# EAGLE library part GAMEBOY_ROTARY_POT_ (library Potentiometers - Thumbwheel)
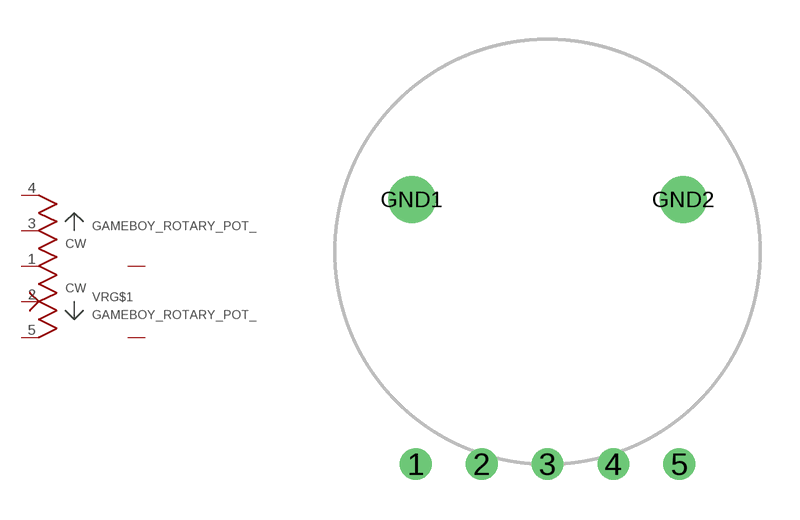
[diagram p0: symbol with the pads of GAMEBOY_POT_ROTARY_; footprint GAMEBOY_POT_ROTARY_]

Designator prefix VR; gates G$1=3LEG_POT G$2=GND G$3=GND G$4=2LEG_EXTRA

## GAMEBOY_ROTARY_POT_5LEG  [GAMEBOY_POT_ROTARY_]
1  G$1:1-CCW
2  G$1:2-WIPER
3  G$4:3-WIPER
4  G$4:4-CW
5  G$1:5-CW
GND1  G$2:P$1
GND2  G$3:P$1

## Footprint GAMEBOY_POT_ROTARY_ (pad centres in mm)
drill 0.7: 1 -5,-8.065; 2 -2.5,-8.065; 3 0,-8.065; 4 2.5,-8.065; 5 5,-8.065
drill 1.2: GND1 -5.15,1.985; GND2 5.15,1.985